# Altium footprint library 自己的封装图库.PcbLib: 60 footprints (part 2 of 4)
Each footprint in its own frame and in the unit in brackets; x right, y up, seen from the top. Pads: shape width x height; smd on the part's side, far side on the other; paste and mask are expansions set on the pad; w line width, h text height; cw(c..) or ccw(c..) is an arc to the next point about the centre after c.
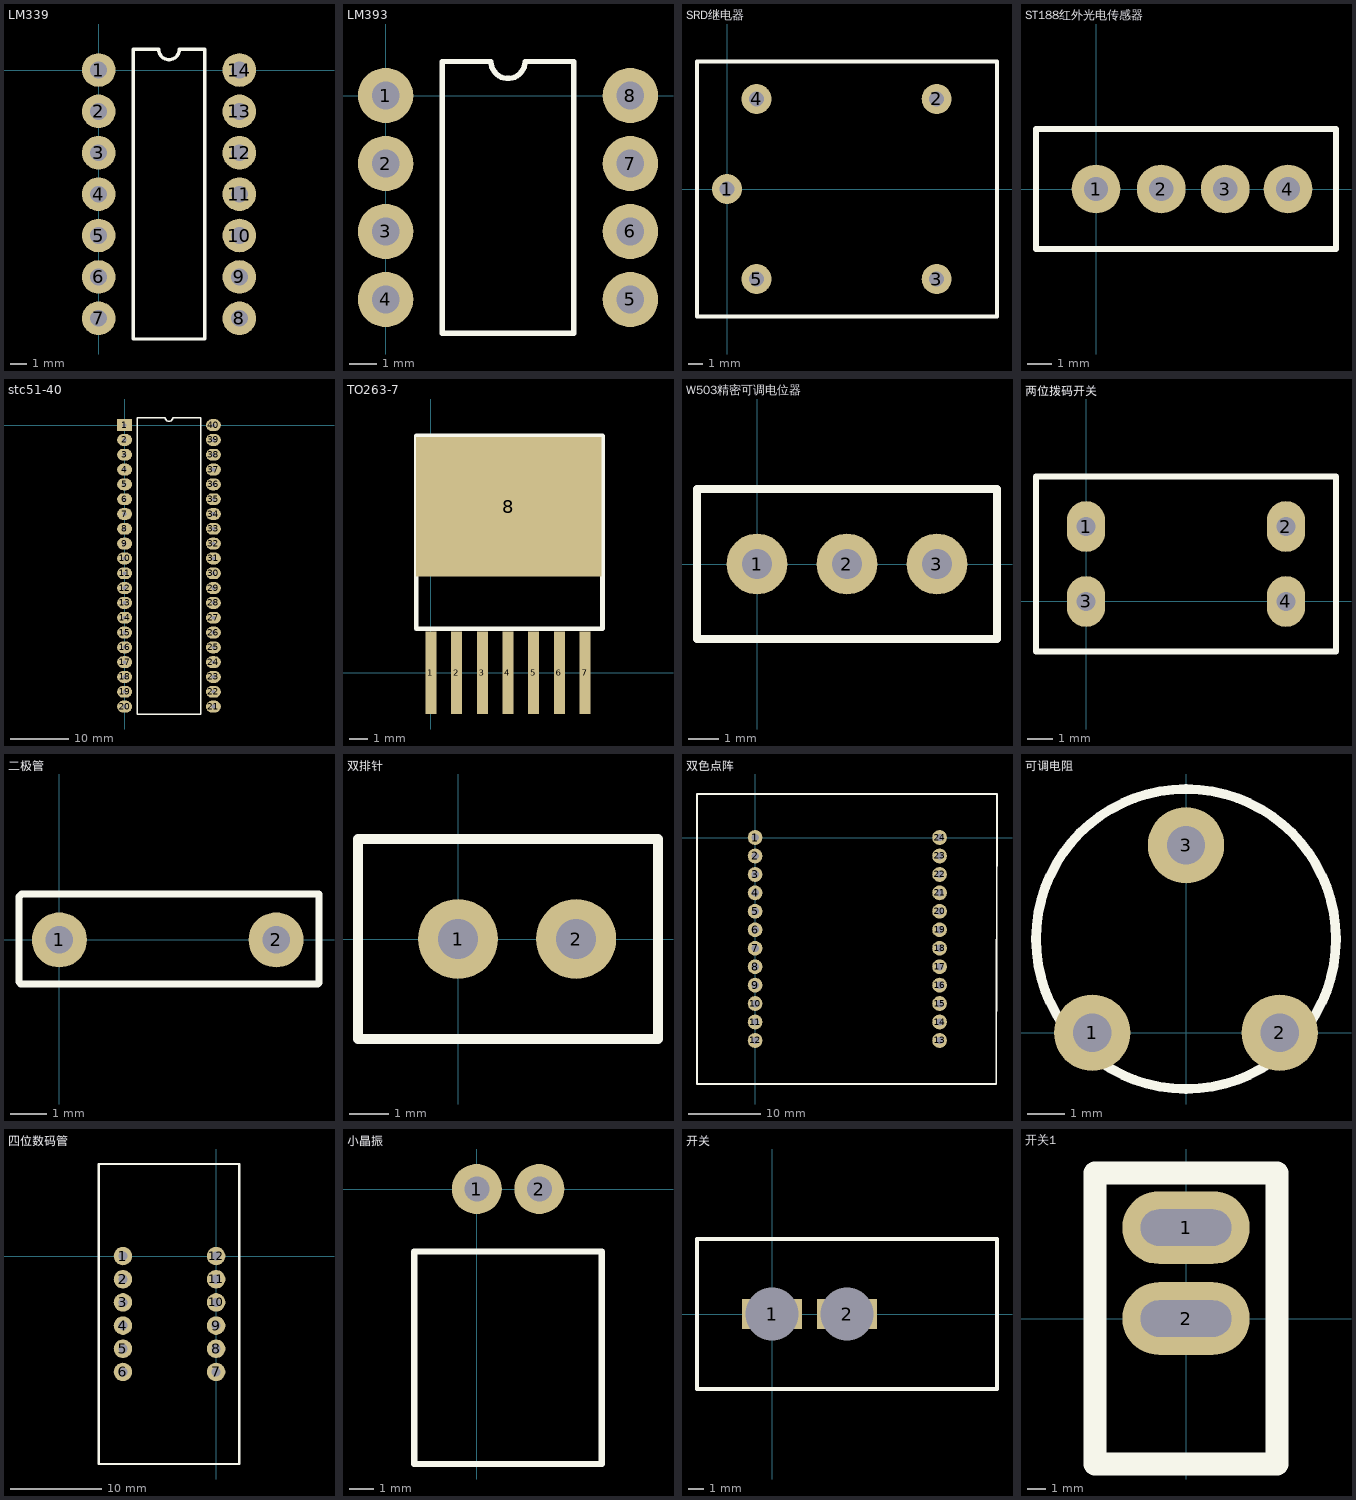
[diagram p1: the footprints below, top view; thin cyan lines are the x and y axes]

## LM339 [mil]
pads (14):
  round 80 hole 40: 1(0,0) 2(0,-98.43) 3(0,-196.85) 4(0,-295.28) 5(0,-393.7) 6(0,-492.13) 7(0,-590.55) 8(334.65,-590.55) 9(334.65,-492.13) 10(334.65,-393.7) 11(334.65,-295.28) 12(334.65,-196.85) 13(334.65,-98.43) 14(334.65,0)
Top Overlay:
  lines w7.87: 82.09,-639.76 82.09,49.21 142.72,49.21 ccw(c167.32,49.21) 191.93,49.21 252.56,49.21 252.56,-639.76 82.09,-639.76

## LM393 [mil]
pads (8):
  round 80 hole 40: 1(0,0) 2(0,-98.43) 3(0,-196.85) 4(0,-295.28) 5(354.33,-295.28) 6(354.33,-196.85) 7(354.33,-98.43) 8(354.33,0)
Top Overlay:
  lines w7.87: 82.09,-344.49 272.24,-344.49 272.24,49.21 201.77,49.21 cw(c177.17,49.21) 152.56,49.21 82.09,49.21 82.09,-344.49

## SRD继电器 [mil]
pads (5):
  round 80 hole 40: 1(0,0) 2(559.06,240.16) 3(559.06,-240.16) 4(78.74,240.16) 5(78.74,-240.16)
Top Overlay:
  lines w10: -80,-340 -80,-120 -80,340 720,340 720,-340 -80,-340

## ST188红外光电传感器 [mil]
pads (4):
  round 80 hole 40: 1(0,0) 2(107,0) 3(212,0) 4(314.96,0)
Top Overlay:
  lines w10: -98.43,-98.43 -98.43,98.43 0,98.43 393.7,98.43 393.7,-98.43 -98.43,-98.43

## stc51-40 [mil]
pads (40):
  rect 100x80 hole 25: 1(0,0)
  oval 100x80 hole 25: 2(0,-100) 3(0,-200) 4(0,-300) 5(0,-400) 6(0,-500) 7(0,-600) 8(0,-700) 9(0,-800) 10(0,-900) 11(0,-1000) 12(0,-1100) 13(0,-1200) 14(0,-1300) 15(0,-1400) 16(0,-1500) 17(0,-1600) 18(0,-1700) 19(0,-1800) 20(0,-1900) 21(600,-1900) 22(600,-1800) 23(600,-1700) 24(600,-1600) 25(600,-1500) 26(600,-1400) 27(600,-1300) 28(600,-1200) 29(600,-1100) 30(600,-1000) 31(600,-900) 32(600,-800) 33(600,-700) 34(600,-600) 35(600,-500) 36(600,-400) 37(600,-300) 38(600,-200) 39(600,-100) 40(600,0)
Top Overlay:
  lines w10: 85,-1950 515,-1950 515,50 325,50 cw(c300,50) 275,50 85,50 85,-1950

## TO263-7 [mm]
pads (8):
  rect 0.6x4.5 smd: 1(0,0) 2(1.4,0) 3(2.8,0) 4(4.2,0) 5(5.6,0) 6(7,0) 7(8.4,0)
  rect 10.1x7.6 smd: 8(4.243,9.055)
Top Overlay:
  lines w0.254: 9.333,2.4 -0.8,2.4 -0.8,12.916 9.349,12.916 9.349,2.415

## W503精密可调电位器 [mil]
pads (3):
  round 80 hole 40: 1(0,0) 2(118.11,0) 3(236.22,0)
Top Overlay:
  lines w10: -78.74,0 -78.74,98.43 ; -78.74,98.43 314.96,98.43 314.96,0 314.96,-98.43 -78.74,-98.43 -78.74,98.43

## 两位拨码开关 [mil]
pads (4):
  oval 60x80 hole 30: 1(0,118.11) 2(314.96,118.11) 3(0,0) 4(314.96,0)
Top Overlay:
  lines w10: -78.74,-78.74 -78.74,196.85 0,196.85 393.7,196.85 393.7,-78.74 -78.74,-78.74

## 二极管 [mil]
pads (2):
  round 60 hole 30: 1(0,0) 2(236.22,0)
Top Overlay:
  lines w7.87: -44,-46 -44,47 -41,50 1,50 283,50 283,-47 282,-48 -42,-48 -44,-46

## 双排针 [mil]
pads (2):
  round 80 hole 40: 1(0,0) 2(118.11,0)
Top Overlay:
  lines w10: -100,-100 -100,100 0,100 200,100 200,-100 -100,-100

## 双色点阵 [mil]
pads (24):
  round 80 hole 40: 1(0,0) 2(0,-100) 3(0,-200) 4(0,-300) 5(0,-400) 6(0,-500) 7(0,-600) 8(0,-700) 9(0,-800) 10(0,-900) 11(0,-1000) 12(0,-1100) 13(1000,-1100) 14(1000,-1000) 15(1000,-900) 16(1000,-800) 17(1000,-700) 18(1000,-600) 19(1000,-500) 20(1000,-400) 21(1000,-300) 22(1000,-200) 23(1000,-100) 24(1000,0)
Top Overlay:
  lines w10: -314.96,-1336.22 0,-1336.22 1307.17,-1336.22 1311.3,236.22 0,236.22 -314.96,236.22 -314.96,-1336.22

## 可调电阻 [mil]
pads (3):
  round 80 hole 40: 1(-98.43,0) 2(98.43,0) 3(0,196.85)
Top Overlay:
  circle w10: c0,98.43 r157.48

## 四位数码管 [mil]
pads (12):
  round 80 hole 40: 1(-401.57,0) 2(-401.57,-100) 3(-401.57,-200) 4(-401.57,-300) 5(-401.57,-400) 6(-401.57,-500) 7(0,-500) 8(0,-400) 9(0,-300) 10(0,-200) 11(0,-100) 12(0,0)
Top Overlay:
  lines w10: 97,397 -506,397 -506,-897 100,-897 100,397

## 小晶振 [mil]
pads (2):
  round 80 hole 40: 1(0,0) 2(100,0)
Top Overlay:
  lines w10: -100,-440 -100,-100 200,-100 200,-440 -100,-440

## 开关 [mm]
pads (2):
  rect 4x2.032 hole 3.5: 1(0,0) 2(5,0)
Top Overlay:
  lines w0.254: -5,-5 -5,5 0,5 15,5 15,0 15,-5 0,-5 -5,-5

## 开关1 [mm]
pads (2):
  oval 7x4 hole 2 slot 5 at 0 deg: 1(0,5) 2(0,0)
Top Overlay:
  lines w1.27: -5,-8 -5,8 5,8 5,-8 -5,-8